# Altium integrated library Altium_WE-TPC_rev22d.IntLib: 258 symbols (part 3 of 5)
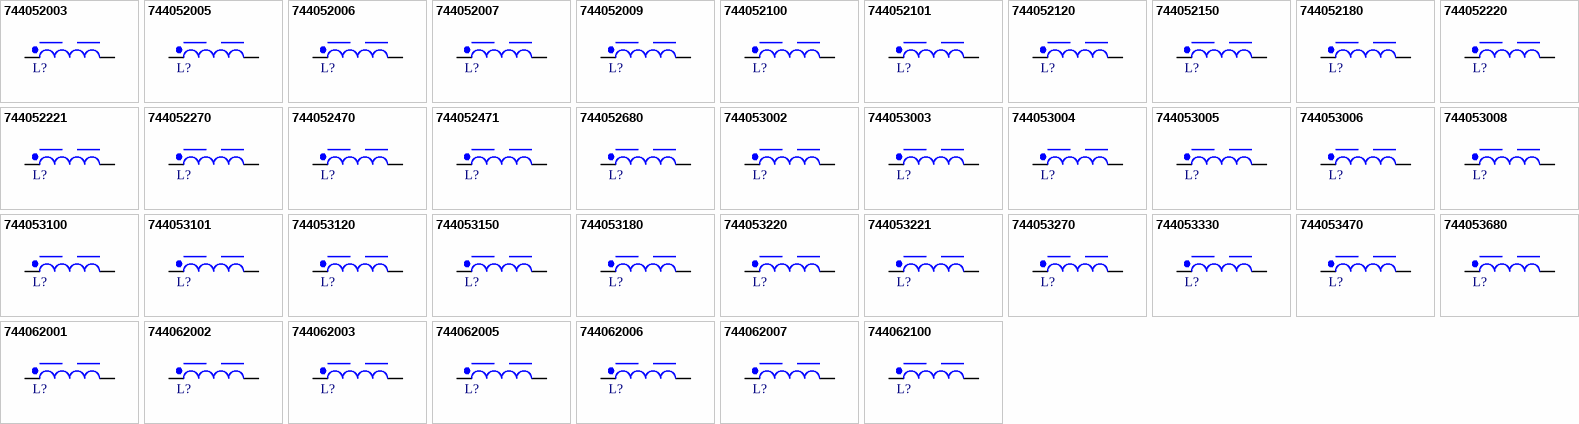
[diagram p8: symbols 744052003 to 744062100]

## 744062005
designator L?, comment 5uH, 2.15A  (value not drawn)
WE-TPC SMT Tiny Power Inductor, size 6823, 5uH, 2.15A, 40mOhm; Manufacturer Part Number: 744062005; Manufacturer: Wurth Elektronik; Case/Size Code: 6823; Saturation Current: 2A; Self Resonant Frequency: 50MHz; Category: Power Inductors; Match Code: WE-TPC; ComponentLink1Description: Website Link; ComponentLink1URL: https://www.we-online.com/redexpert/article/744062005?ad; ComponentLink2Description: Datasheet Link; ComponentLink2URL: https://www.we-online.com/redexpert/spec/744062005?ad; Mount: Surface Mount; Operating Temperature Max: 125°C; Operating Temperature Min: -40°C; Packaging: Tape and Reel; Length: 6.8mm; Width: 6.8mm; Height: 2.3mm; DC Resistance: 40mOhm; Inductance: 5uH; Rated Current: 2.15A
footprint WE-TPC_6823
simulation model 6823_744062005_5u
pins: 1, 2

## 744062006
designator L?, comment 6.2uH, 1.9A  (value not drawn)
WE-TPC SMT Tiny Power Inductor, size 6823, 6.2uH, 1.9A, 40mOhm; Manufacturer Part Number: 744062006; Manufacturer: Wurth Elektronik; Case/Size Code: 6823; Saturation Current: 1.8A; Self Resonant Frequency: 45MHz; Category: Power Inductors; Match Code: WE-TPC; ComponentLink1Description: Website Link; ComponentLink1URL: https://www.we-online.com/redexpert/article/744062006?ad; ComponentLink2Description: Datasheet Link; ComponentLink2URL: https://www.we-online.com/redexpert/spec/744062006?ad; Mount: Surface Mount; Operating Temperature Max: 125°C; Operating Temperature Min: -40°C; Packaging: Tape and Reel; Length: 6.8mm; Width: 6.8mm; Height: 2.3mm; DC Resistance: 40mOhm; Inductance: 6.2uH; Rated Current: 1.9A
footprint WE-TPC_6823
simulation model 6823_744062006_6.2u
pins: 1, 2

## 744062007
designator L?, comment 7.5uH, 1.7A  (value not drawn)
WE-TPC SMT Tiny Power Inductor, size 6823, 7.5uH, 1.7A, 50mOhm; Manufacturer Part Number: 744062007; Manufacturer: Wurth Elektronik; Case/Size Code: 6823; Saturation Current: 1.6A; Self Resonant Frequency: 40MHz; Category: Power Inductors; Match Code: WE-TPC; ComponentLink1Description: Website Link; ComponentLink1URL: https://www.we-online.com/redexpert/article/744062007?ad; ComponentLink2Description: Datasheet Link; ComponentLink2URL: https://www.we-online.com/redexpert/spec/744062007?ad; Mount: Surface Mount; Operating Temperature Max: 125°C; Operating Temperature Min: -40°C; Packaging: Tape and Reel; Length: 6.8mm; Width: 6.8mm; Height: 2.3mm; DC Resistance: 50mOhm; Inductance: 7.5uH; Rated Current: 1.7A
footprint WE-TPC_6823
simulation model 6823_744062007_7.5u
pins: 1, 2

## 744062100
designator L?, comment 10uH, 1.6A  (value not drawn)
WE-TPC SMT Tiny Power Inductor, size 6823, 10uH, 1.6A, 53mOhm; Manufacturer Part Number: 744062100; Manufacturer: Wurth Elektronik; Case/Size Code: 6823; Saturation Current: 1.4A; Self Resonant Frequency: 35MHz; Category: Power Inductors; Match Code: WE-TPC; ComponentLink1Description: Website Link; ComponentLink1URL: https://www.we-online.com/redexpert/article/744062100?ad; ComponentLink2Description: Datasheet Link; ComponentLink2URL: https://www.we-online.com/redexpert/spec/744062100?ad; Mount: Surface Mount; Operating Temperature Max: 125°C; Operating Temperature Min: -40°C; Packaging: Tape and Reel; Length: 6.8mm; Width: 6.8mm; Height: 2.3mm; DC Resistance: 53mOhm; Inductance: 10uH; Rated Current: 1.6A
footprint WE-TPC_6823
simulation model 6823_744062100_10u
pins: 1, 2

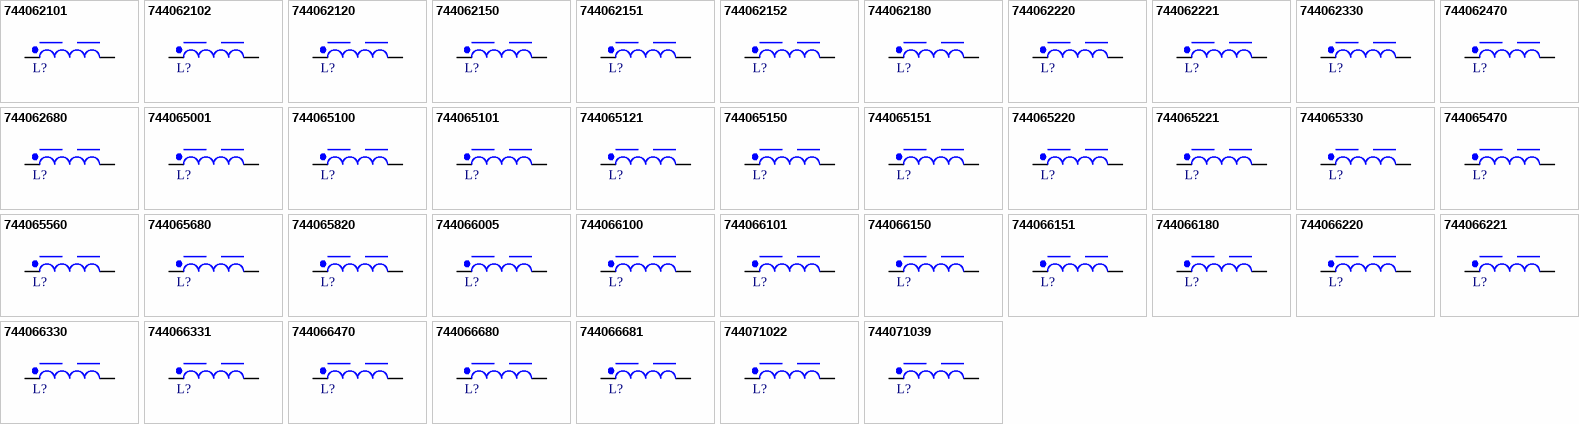
[diagram p3: symbols 744062101 to 744071039]

## 744062101
designator L?, comment 100uH, 0.55A  (value not drawn)
WE-TPC SMT Tiny Power Inductor, size 6823, 100uH, 0.55A, 440mOhm; Manufacturer Part Number: 744062101; Manufacturer: Wurth Elektronik; Case/Size Code: 6823; Saturation Current: 0.47A; Self Resonant Frequency: 10MHz; Category: Power Inductors; Match Code: WE-TPC; ComponentLink1Description: Website Link; ComponentLink1URL: https://www.we-online.com/redexpert/article/744062101?ad; ComponentLink2Description: Datasheet Link; ComponentLink2URL: https://www.we-online.com/redexpert/spec/744062101?ad; Mount: Surface Mount; Operating Temperature Max: 125°C; Operating Temperature Min: -40°C; Packaging: Tape and Reel; Length: 6.8mm; Width: 6.8mm; Height: 2.3mm; DC Resistance: 440mOhm; Inductance: 100uH; Rated Current: 0.55A
footprint WE-TPC_6823
simulation model 6823_744062101_100u
pins: 1, 2

## 744062102
designator L?, comment 1000uH, 0.16A  (value not drawn)
WE-TPC SMT Tiny Power Inductor, size 6823, 1000uH, 0.16A, 3820mOhm; Manufacturer Part Number: 744062102; Manufacturer: Wurth Elektronik; Case/Size Code: 6823; Saturation Current: 0.13A; Self Resonant Frequency: 2MHz; Category: Power Inductors; Match Code: WE-TPC; ComponentLink1Description: Website Link; ComponentLink1URL: https://www.we-online.com/redexpert/article/744062102?ad; ComponentLink2Description: Datasheet Link; ComponentLink2URL: https://www.we-online.com/redexpert/spec/744062102?ad; Mount: Surface Mount; Operating Temperature Max: 125°C; Operating Temperature Min: -40°C; Packaging: Tape and Reel; Length: 6.8mm; Width: 6.8mm; Height: 2.3mm; DC Resistance: 3820mOhm; Inductance: 1000uH; Rated Current: 0.16A
footprint WE-TPC_6823
simulation model 6823_744062102_1000u
pins: 1, 2

## 744062120
designator L?, comment 12uH, 1.43A  (value not drawn)
WE-TPC SMT Tiny Power Inductor, size 6823, 12uH, 1.43A, 60mOhm; Manufacturer Part Number: 744062120; Manufacturer: Wurth Elektronik; Case/Size Code: 6823; Saturation Current: 1.25A; Self Resonant Frequency: 30MHz; Category: Power Inductors; Match Code: WE-TPC; ComponentLink1Description: Website Link; ComponentLink1URL: https://www.we-online.com/redexpert/article/744062120?ad; ComponentLink2Description: Datasheet Link; ComponentLink2URL: https://www.we-online.com/redexpert/spec/744062120?ad; Mount: Surface Mount; Operating Temperature Max: 125°C; Operating Temperature Min: -40°C; Packaging: Tape and Reel; Length: 6.8mm; Width: 6.8mm; Height: 2.3mm; DC Resistance: 60mOhm; Inductance: 12uH; Rated Current: 1.43A
footprint WE-TPC_6823
simulation model 6823_744062120_12u
pins: 1, 2

## 744062150
designator L?, comment 15uH, 1.31A  (value not drawn)
WE-TPC SMT Tiny Power Inductor, size 6823, 15uH, 1.31A, 80mOhm; Manufacturer Part Number: 744062150; Manufacturer: Wurth Elektronik; Case/Size Code: 6823; Saturation Current: 1.1A; Self Resonant Frequency: 25MHz; Category: Power Inductors; Match Code: WE-TPC; ComponentLink1Description: Website Link; ComponentLink1URL: https://www.we-online.com/redexpert/article/744062150?ad; ComponentLink2Description: Datasheet Link; ComponentLink2URL: https://www.we-online.com/redexpert/spec/744062150?ad; Mount: Surface Mount; Operating Temperature Max: 125°C; Operating Temperature Min: -40°C; Packaging: Tape and Reel; Length: 6.8mm; Width: 6.8mm; Height: 2.3mm; DC Resistance: 80mOhm; Inductance: 15uH; Rated Current: 1.31A
footprint WE-TPC_6823
simulation model 6823_744062150_15u
pins: 1, 2

## 744062151
designator L?, comment 150uH, 0.43A  (value not drawn)
WE-TPC SMT Tiny Power Inductor, size 6823, 150uH, 0.43A, 605mOhm; Manufacturer Part Number: 744062151; Manufacturer: Wurth Elektronik; Case/Size Code: 6823; Saturation Current: 0.36A; Self Resonant Frequency: 9MHz; Category: Power Inductors; Match Code: WE-TPC; ComponentLink1Description: Website Link; ComponentLink1URL: https://www.we-online.com/redexpert/article/744062151?ad; ComponentLink2Description: Datasheet Link; ComponentLink2URL: https://www.we-online.com/redexpert/spec/744062151?ad; Mount: Surface Mount; Operating Temperature Max: 125°C; Operating Temperature Min: -40°C; Packaging: Tape and Reel; Length: 6.8mm; Width: 6.8mm; Height: 2.3mm; DC Resistance: 605mOhm; Inductance: 150uH; Rated Current: 0.43A
footprint WE-TPC_6823
simulation model 6823_744062151_150u
pins: 1, 2

## 744062152
designator L?, comment 1500uH, 0.08A  (value not drawn)
WE-TPC SMT Tiny Power Inductor, size 6823, 1500uH, 0.08A, 7000mOhm; Manufacturer Part Number: 744062152; Manufacturer: Wurth Elektronik; Case/Size Code: 6823; Saturation Current: 0.11A; Self Resonant Frequency: 1.5MHz; Category: Power Inductors; Match Code: WE-TPC; ComponentLink1Description: Website Link; ComponentLink1URL: https://www.we-online.com/redexpert/article/744062152?ad; ComponentLink2Description: Datasheet Link; ComponentLink2URL: https://www.we-online.com/redexpert/spec/744062152?ad; Mount: Surface Mount; Operating Temperature Max: 125°C; Operating Temperature Min: -40°C; Packaging: Tape and Reel; Length: 6.8mm; Width: 6.8mm; Height: 2.3mm; DC Resistance: 7000mOhm; Inductance: 1500uH; Rated Current: 0.08A
footprint WE-TPC_6823
simulation model 6823_744062152_1500u
pins: 1, 2

## 744062180
designator L?, comment 18uH, 1.28A  (value not drawn)
WE-TPC SMT Tiny Power Inductor, size 6823, 18uH, 1.28A, 90mOhm; Manufacturer Part Number: 744062180; Manufacturer: Wurth Elektronik; Case/Size Code: 6823; Saturation Current: 1A; Self Resonant Frequency: 25MHz; Category: Power Inductors; Match Code: WE-TPC; ComponentLink1Description: Website Link; ComponentLink1URL: https://www.we-online.com/redexpert/article/744062180?ad; ComponentLink2Description: Datasheet Link; ComponentLink2URL: https://www.we-online.com/redexpert/spec/744062180?ad; Mount: Surface Mount; Operating Temperature Max: 125°C; Operating Temperature Min: -40°C; Packaging: Tape and Reel; Length: 6.8mm; Width: 6.8mm; Height: 2.3mm; DC Resistance: 90mOhm; Inductance: 18uH; Rated Current: 1.28A
footprint WE-TPC_6823
simulation model 6823_744062180_18u
pins: 1, 2

## 744062220
designator L?, comment 22uH, 1.22A  (value not drawn)
WE-TPC SMT Tiny Power Inductor, size 6823, 22uH, 1.22A, 100mOhm; Manufacturer Part Number: 744062220; Manufacturer: Wurth Elektronik; Case/Size Code: 6823; Saturation Current: 0.95A; Self Resonant Frequency: 20MHz; Category: Power Inductors; Match Code: WE-TPC; ComponentLink1Description: Website Link; ComponentLink1URL: https://www.we-online.com/redexpert/article/744062220?ad; ComponentLink2Description: Datasheet Link; ComponentLink2URL: https://www.we-online.com/redexpert/spec/744062220?ad; Mount: Surface Mount; Operating Temperature Max: 125°C; Operating Temperature Min: -40°C; Packaging: Tape and Reel; Length: 6.8mm; Width: 6.8mm; Height: 2.3mm; DC Resistance: 100mOhm; Inductance: 22uH; Rated Current: 1.22A
footprint WE-TPC_6823
simulation model 6823_744062220_22u
pins: 1, 2

## 744062221
designator L?, comment 220uH, 0.36A  (value not drawn)
WE-TPC SMT Tiny Power Inductor, size 6823, 220uH, 0.36A, 1010mOhm; Manufacturer Part Number: 744062221; Manufacturer: Wurth Elektronik; Case/Size Code: 6823; Saturation Current: 0.25A; Self Resonant Frequency: 7MHz; Category: Power Inductors; Match Code: WE-TPC; ComponentLink1Description: Website Link; ComponentLink1URL: https://www.we-online.com/redexpert/article/744062221?ad; ComponentLink2Description: Datasheet Link; ComponentLink2URL: https://www.we-online.com/redexpert/spec/744062221?ad; Mount: Surface Mount; Operating Temperature Max: 125°C; Operating Temperature Min: -40°C; Packaging: Tape and Reel; Length: 6.8mm; Width: 6.8mm; Height: 2.3mm; DC Resistance: 1010mOhm; Inductance: 220uH; Rated Current: 0.36A
footprint WE-TPC_6823
simulation model 6823_744062221_220u
pins: 1, 2

## 744062330
designator L?, comment 33uH, 0.93A  (value not drawn)
WE-TPC SMT Tiny Power Inductor, size 6823, 33uH, 0.93A, 150mOhm; Manufacturer Part Number: 744062330; Manufacturer: Wurth Elektronik; Case/Size Code: 6823; Saturation Current: 0.78A; Self Resonant Frequency: 20MHz; Category: Power Inductors; Match Code: WE-TPC; ComponentLink1Description: Website Link; ComponentLink1URL: https://www.we-online.com/redexpert/article/744062330?ad; ComponentLink2Description: Datasheet Link; ComponentLink2URL: https://www.we-online.com/redexpert/spec/744062330?ad; Mount: Surface Mount; Operating Temperature Max: 125°C; Operating Temperature Min: -40°C; Packaging: Tape and Reel; Length: 6.8mm; Width: 6.8mm; Height: 2.3mm; DC Resistance: 150mOhm; Inductance: 33uH; Rated Current: 0.93A
footprint WE-TPC_6823
simulation model 6823_744062330_33u
pins: 1, 2

## 744062470
designator L?, comment 47uH, 0.73A  (value not drawn)
WE-TPC SMT Tiny Power Inductor, size 6823, 47uH, 0.73A, 260mOhm; Manufacturer Part Number: 744062470; Manufacturer: Wurth Elektronik; Case/Size Code: 6823; Saturation Current: 0.62A; Self Resonant Frequency: 12MHz; Category: Power Inductors; Match Code: WE-TPC; ComponentLink1Description: Website Link; ComponentLink1URL: https://www.we-online.com/redexpert/article/744062470?ad; ComponentLink2Description: Datasheet Link; ComponentLink2URL: https://www.we-online.com/redexpert/spec/744062470?ad; Mount: Surface Mount; Operating Temperature Max: 125°C; Operating Temperature Min: -40°C; Packaging: Tape and Reel; Length: 6.8mm; Width: 6.8mm; Height: 2.3mm; DC Resistance: 260mOhm; Inductance: 47uH; Rated Current: 0.73A
footprint WE-TPC_6823
simulation model 6823_744062470_47u
pins: 1, 2

## 744062680
designator L?, comment 68uH, 0.64A  (value not drawn)
WE-TPC SMT Tiny Power Inductor, size 6823, 68uH, 0.64A, 300mOhm; Manufacturer Part Number: 744062680; Manufacturer: Wurth Elektronik; Case/Size Code: 6823; Saturation Current: 0.5A; Self Resonant Frequency: 12MHz; Category: Power Inductors; Match Code: WE-TPC; ComponentLink1Description: Website Link; ComponentLink1URL: https://www.we-online.com/redexpert/article/744062680?ad; ComponentLink2Description: Datasheet Link; ComponentLink2URL: https://www.we-online.com/redexpert/spec/744062680?ad; Mount: Surface Mount; Operating Temperature Max: 125°C; Operating Temperature Min: -40°C; Packaging: Tape and Reel; Length: 6.8mm; Width: 6.8mm; Height: 2.3mm; DC Resistance: 300mOhm; Inductance: 68uH; Rated Current: 0.64A
footprint WE-TPC_6823
simulation model 6823_744062680_68u
pins: 1, 2

## 744065001
designator L?, comment 1uH, 8A  (value not drawn)
WE-TPC SMT Tiny Power Inductor, size 1028, 1uH, 8A, 4.9mOhm; Manufacturer Part Number: 744065001; Manufacturer: Wurth Elektronik; Case/Size Code: 1028; Saturation Current: 9.5A; Self Resonant Frequency: 100MHz; Category: Power Inductors; Match Code: WE-TPC; ComponentLink1Description: Website Link; ComponentLink1URL: https://www.we-online.com/redexpert/article/744065001?ad; ComponentLink2Description: Datasheet Link; ComponentLink2URL: https://www.we-online.com/redexpert/spec/744065001?ad; Mount: Surface Mount; Operating Temperature Max: 125°C; Operating Temperature Min: -40°C; Packaging: Tape and Reel; Length: 10mm; Width: 10mm; Height: 2.78mm; DC Resistance: 4.9mOhm; Inductance: 1uH; Rated Current: 8A
footprint WE-TPC_1028
simulation model 1028_744065001_1u
pins: 1, 2

## 744065100
designator L?, comment 10uH, 3A  (value not drawn)
WE-TPC SMT Tiny Power Inductor, size 1028, 10uH, 3A, 40mOhm; Manufacturer Part Number: 744065100; Manufacturer: Wurth Elektronik; Case/Size Code: 1028; Saturation Current: 2.5A; Self Resonant Frequency: 25MHz; Category: Power Inductors; Match Code: WE-TPC; ComponentLink1Description: Website Link; ComponentLink1URL: https://www.we-online.com/redexpert/article/744065100?ad; ComponentLink2Description: Datasheet Link; ComponentLink2URL: https://www.we-online.com/redexpert/spec/744065100?ad; Mount: Surface Mount; Operating Temperature Max: 125°C; Operating Temperature Min: -40°C; Packaging: Tape and Reel; Length: 10mm; Width: 10mm; Height: 2.78mm; DC Resistance: 40mOhm; Inductance: 10uH; Rated Current: 3A
footprint WE-TPC_1028
simulation model 1028_744065100_10u
pins: 1, 2

## 744065101
designator L?, comment 100uH, 1A  (value not drawn)
WE-TPC SMT Tiny Power Inductor, size 1028, 100uH, 1A, 365mOhm; Manufacturer Part Number: 744065101; Manufacturer: Wurth Elektronik; Case/Size Code: 1028; Saturation Current: 0.9A; Self Resonant Frequency: 7MHz; Category: Power Inductors; Match Code: WE-TPC; ComponentLink1Description: Website Link; ComponentLink1URL: https://www.we-online.com/redexpert/article/744065101?ad; ComponentLink2Description: Datasheet Link; ComponentLink2URL: https://www.we-online.com/redexpert/spec/744065101?ad; Mount: Surface Mount; Operating Temperature Max: 125°C; Operating Temperature Min: -40°C; Packaging: Tape and Reel; Length: 10mm; Width: 10mm; Height: 2.78mm; DC Resistance: 365mOhm; Inductance: 100uH; Rated Current: 1A
footprint WE-TPC_1028
simulation model 1028_744065101_100u
pins: 1, 2

## 744065121
designator L?, comment 120uH, 0.9A  (value not drawn)
WE-TPC SMT Tiny Power Inductor, size 1028, 120uH, 0.9A, 428mOhm; Manufacturer Part Number: 744065121; Manufacturer: Wurth Elektronik; Case/Size Code: 1028; Saturation Current: 0.85A; Self Resonant Frequency: 6MHz; Category: Power Inductors; Match Code: WE-TPC; ComponentLink1Description: Website Link; ComponentLink1URL: https://www.we-online.com/redexpert/article/744065121?ad; ComponentLink2Description: Datasheet Link; ComponentLink2URL: https://www.we-online.com/redexpert/spec/744065121?ad; Mount: Surface Mount; Operating Temperature Max: 125°C; Operating Temperature Min: -40°C; Packaging: Tape and Reel; Length: 10mm; Width: 10mm; Height: 2.78mm; DC Resistance: 428mOhm; Inductance: 120uH; Rated Current: 0.9A
footprint WE-TPC_1028
simulation model 1028_744065121_120u
pins: 1, 2

## 744065150
designator L?, comment 15uH, 2.2A  (value not drawn)
WE-TPC SMT Tiny Power Inductor, size 1028, 15uH, 2.2A, 69mOhm; Manufacturer Part Number: 744065150; Manufacturer: Wurth Elektronik; Case/Size Code: 1028; Saturation Current: 2.25A; Self Resonant Frequency: 22MHz; Category: Power Inductors; Match Code: WE-TPC; ComponentLink1Description: Website Link; ComponentLink1URL: https://www.we-online.com/redexpert/article/744065150?ad; ComponentLink2Description: Datasheet Link; ComponentLink2URL: https://www.we-online.com/redexpert/spec/744065150?ad; Mount: Surface Mount; Operating Temperature Max: 125°C; Operating Temperature Min: -40°C; Packaging: Tape and Reel; Length: 10mm; Width: 10mm; Height: 2.78mm; DC Resistance: 69mOhm; Inductance: 15uH; Rated Current: 2.2A
footprint WE-TPC_1028
simulation model 1028_744065150_15u
pins: 1, 2

## 744065151
designator L?, comment 150uH, 0.85A  (value not drawn)
WE-TPC SMT Tiny Power Inductor, size 1028, 150uH, 0.85A, 530mOhm; Manufacturer Part Number: 744065151; Manufacturer: Wurth Elektronik; Case/Size Code: 1028; Saturation Current: 0.75A; Self Resonant Frequency: 5MHz; Category: Power Inductors; Match Code: WE-TPC; ComponentLink1Description: Website Link; ComponentLink1URL: https://www.we-online.com/redexpert/article/744065151?ad; ComponentLink2Description: Datasheet Link; ComponentLink2URL: https://www.we-online.com/redexpert/spec/744065151?ad; Mount: Surface Mount; Operating Temperature Max: 125°C; Operating Temperature Min: -40°C; Packaging: Tape and Reel; Length: 10mm; Width: 10mm; Height: 2.78mm; DC Resistance: 530mOhm; Inductance: 150uH; Rated Current: 0.85A
footprint WE-TPC_1028
simulation model 1028_744065151_150u
pins: 1, 2

## 744065220
designator L?, comment 22uH, 1.8A  (value not drawn)
WE-TPC SMT Tiny Power Inductor, size 1028, 22uH, 1.8A, 104mOhm; Manufacturer Part Number: 744065220; Manufacturer: Wurth Elektronik; Case/Size Code: 1028; Saturation Current: 1.9A; Self Resonant Frequency: 16MHz; Category: Power Inductors; Match Code: WE-TPC; ComponentLink1Description: Website Link; ComponentLink1URL: https://www.we-online.com/redexpert/article/744065220?ad; ComponentLink2Description: Datasheet Link; ComponentLink2URL: https://www.we-online.com/redexpert/spec/744065220?ad; Mount: Surface Mount; Operating Temperature Max: 125°C; Operating Temperature Min: -40°C; Packaging: Tape and Reel; Length: 10mm; Width: 10mm; Height: 2.78mm; DC Resistance: 104mOhm; Inductance: 22uH; Rated Current: 1.8A
footprint WE-TPC_1028
simulation model 1028_744065220_22u
pins: 1, 2

## 744065221
designator L?, comment 220uH, 0.5A  (value not drawn)
WE-TPC SMT Tiny Power Inductor, size 1028, 220uH, 0.5A, 750mOhm; Manufacturer Part Number: 744065221; Manufacturer: Wurth Elektronik; Case/Size Code: 1028; Saturation Current: 0.55A; Self Resonant Frequency: 4MHz; Category: Power Inductors; Match Code: WE-TPC; ComponentLink1Description: Website Link; ComponentLink1URL: https://www.we-online.com/redexpert/article/744065221?ad; ComponentLink2Description: Datasheet Link; ComponentLink2URL: https://www.we-online.com/redexpert/spec/744065221?ad; Mount: Surface Mount; Operating Temperature Max: 125°C; Operating Temperature Min: -40°C; Packaging: Tape and Reel; Length: 10mm; Width: 10mm; Height: 2.78mm; DC Resistance: 750mOhm; Inductance: 220uH; Rated Current: 0.5A
footprint WE-TPC_1028
simulation model 1028_744065221_220u
pins: 1, 2

## 744065330
designator L?, comment 33uH, 1.6A  (value not drawn)
WE-TPC SMT Tiny Power Inductor, size 1028, 33uH, 1.6A, 139mOhm; Manufacturer Part Number: 744065330; Manufacturer: Wurth Elektronik; Case/Size Code: 1028; Saturation Current: 1.3A; Self Resonant Frequency: 12MHz; Category: Power Inductors; Match Code: WE-TPC; ComponentLink1Description: Website Link; ComponentLink1URL: https://www.we-online.com/redexpert/article/744065330?ad; ComponentLink2Description: Datasheet Link; ComponentLink2URL: https://www.we-online.com/redexpert/spec/744065330?ad; Mount: Surface Mount; Operating Temperature Max: 125°C; Operating Temperature Min: -40°C; Packaging: Tape and Reel; Length: 10mm; Width: 10mm; Height: 2.78mm; DC Resistance: 139mOhm; Inductance: 33uH; Rated Current: 1.6A
footprint WE-TPC_1028
simulation model 1028_744065330_33u
pins: 1, 2

## 744065470
designator L?, comment 47uH, 1.4A  (value not drawn)
WE-TPC SMT Tiny Power Inductor, size 1028, 47uH, 1.4A, 167mOhm; Manufacturer Part Number: 744065470; Manufacturer: Wurth Elektronik; Case/Size Code: 1028; Saturation Current: 1.15A; Self Resonant Frequency: 11MHz; Category: Power Inductors; Match Code: WE-TPC; ComponentLink1Description: Website Link; ComponentLink1URL: https://www.we-online.com/redexpert/article/744065470?ad; ComponentLink2Description: Datasheet Link; ComponentLink2URL: https://www.we-online.com/redexpert/spec/744065470?ad; Mount: Surface Mount; Operating Temperature Max: 125°C; Operating Temperature Min: -40°C; Packaging: Tape and Reel; Length: 10mm; Width: 10mm; Height: 2.78mm; DC Resistance: 167mOhm; Inductance: 47uH; Rated Current: 1.4A
footprint WE-TPC_1028
simulation model 1028_744065470_47u
pins: 1, 2

## 744065560
designator L?, comment 56uH, 1.25A  (value not drawn)
WE-TPC SMT Tiny Power Inductor, size 1028, 56uH, 1.25A, 208mOhm; Manufacturer Part Number: 744065560; Manufacturer: Wurth Elektronik; Case/Size Code: 1028; Saturation Current: 1.1A; Self Resonant Frequency: 10MHz; Category: Power Inductors; Match Code: WE-TPC; ComponentLink1Description: Website Link; ComponentLink1URL: https://www.we-online.com/redexpert/article/744065560?ad; ComponentLink2Description: Datasheet Link; ComponentLink2URL: https://www.we-online.com/redexpert/spec/744065560?ad; Mount: Surface Mount; Operating Temperature Max: 125°C; Operating Temperature Min: -40°C; Packaging: Tape and Reel; Length: 10mm; Width: 10mm; Height: 2.78mm; DC Resistance: 208mOhm; Inductance: 56uH; Rated Current: 1.25A
footprint WE-TPC_1028
simulation model 1028_744065560_56u
pins: 1, 2

## 744065680
designator L?, comment 68uH, 1.2A  (value not drawn)
WE-TPC SMT Tiny Power Inductor, size 1028, 68uH, 1.2A, 232mOhm; Manufacturer Part Number: 744065680; Manufacturer: Wurth Elektronik; Case/Size Code: 1028; Saturation Current: 1.05A; Self Resonant Frequency: 9MHz; Category: Power Inductors; Match Code: WE-TPC; ComponentLink1Description: Website Link; ComponentLink1URL: https://www.we-online.com/redexpert/article/744065680?ad; ComponentLink2Description: Datasheet Link; ComponentLink2URL: https://www.we-online.com/redexpert/spec/744065680?ad; Mount: Surface Mount; Operating Temperature Max: 125°C; Operating Temperature Min: -40°C; Packaging: Tape and Reel; Length: 10mm; Width: 10mm; Height: 2.78mm; DC Resistance: 232mOhm; Inductance: 68uH; Rated Current: 1.2A
footprint WE-TPC_1028
simulation model 1028_744065680_68u
pins: 1, 2

## 744065820
designator L?, comment 82uH, 1.1A  (value not drawn)
WE-TPC SMT Tiny Power Inductor, size 1028, 82uH, 1.1A, 323mOhm; Manufacturer Part Number: 744065820; Manufacturer: Wurth Elektronik; Case/Size Code: 1028; Saturation Current: 1A; Self Resonant Frequency: 8MHz; Category: Power Inductors; Match Code: WE-TPC; ComponentLink1Description: Website Link; ComponentLink1URL: https://www.we-online.com/redexpert/article/744065820?ad; ComponentLink2Description: Datasheet Link; ComponentLink2URL: https://www.we-online.com/redexpert/spec/744065820?ad; Mount: Surface Mount; Operating Temperature Max: 125°C; Operating Temperature Min: -40°C; Packaging: Tape and Reel; Length: 10mm; Width: 10mm; Height: 2.78mm; DC Resistance: 323mOhm; Inductance: 82uH; Rated Current: 1.1A
footprint WE-TPC_1028
simulation model 1028_744065820_82u
pins: 1, 2

## 744066005
designator L?, comment 5uH, 5.3A  (value not drawn)
WE-TPC SMT Tiny Power Inductor, size 1038, 5uH, 5.3A, 16.8mOhm; Manufacturer Part Number: 744066005; Manufacturer: Wurth Elektronik; Case/Size Code: 1038; Saturation Current: 5.5A; Self Resonant Frequency: 30MHz; Category: Power Inductors; Match Code: WE-TPC; ComponentLink1Description: Website Link; ComponentLink1URL: https://www.we-online.com/redexpert/article/744066005?ad; ComponentLink2Description: Datasheet Link; ComponentLink2URL: https://www.we-online.com/redexpert/spec/744066005?ad; Mount: Surface Mount; Operating Temperature Max: 125°C; Operating Temperature Min: -40°C; Packaging: Tape and Reel; Length: 10mm; Width: 10mm; Height: 3.8mm; DC Resistance: 16.8mOhm; Inductance: 5uH; Rated Current: 5.3A
footprint WE-TPC_1038
simulation model 1038_744066005_5u
pins: 1, 2

## 744066100
designator L?, comment 10uH, 3.9A  (value not drawn)
WE-TPC SMT Tiny Power Inductor, size 1038, 10uH, 3.9A, 27mOhm; Manufacturer Part Number: 744066100; Manufacturer: Wurth Elektronik; Case/Size Code: 1038; Saturation Current: 4A; Self Resonant Frequency: 20MHz; Category: Power Inductors; Match Code: WE-TPC; ComponentLink1Description: Website Link; ComponentLink1URL: https://www.we-online.com/redexpert/article/744066100?ad; ComponentLink2Description: Datasheet Link; ComponentLink2URL: https://www.we-online.com/redexpert/spec/744066100?ad; Mount: Surface Mount; Operating Temperature Max: 125°C; Operating Temperature Min: -40°C; Packaging: Tape and Reel; Length: 10mm; Width: 10mm; Height: 3.8mm; DC Resistance: 27mOhm; Inductance: 10uH; Rated Current: 3.9A
footprint WE-TPC_1038
simulation model 1038_744066100_10u
pins: 1, 2

## 744066101
designator L?, comment 100uH, 1.15A  (value not drawn)
WE-TPC SMT Tiny Power Inductor, size 1038, 100uH, 1.15A, 265mOhm; Manufacturer Part Number: 744066101; Manufacturer: Wurth Elektronik; Case/Size Code: 1038; Saturation Current: 1.2A; Self Resonant Frequency: 6MHz; Category: Power Inductors; Match Code: WE-TPC; ComponentLink1Description: Website Link; ComponentLink1URL: https://www.we-online.com/redexpert/article/744066101?ad; ComponentLink2Description: Datasheet Link; ComponentLink2URL: https://www.we-online.com/redexpert/spec/744066101?ad; Mount: Surface Mount; Operating Temperature Max: 125°C; Operating Temperature Min: -40°C; Packaging: Tape and Reel; Length: 10mm; Width: 10mm; Height: 3.8mm; DC Resistance: 265mOhm; Inductance: 100uH; Rated Current: 1.15A
footprint WE-TPC_1038
simulation model 1038_744066101_100u
pins: 1, 2

## 744066150
designator L?, comment 15uH, 3A  (value not drawn)
WE-TPC SMT Tiny Power Inductor, size 1038, 15uH, 3A, 45mOhm; Manufacturer Part Number: 744066150; Manufacturer: Wurth Elektronik; Case/Size Code: 1038; Saturation Current: 3.25A; Self Resonant Frequency: 16MHz; Category: Power Inductors; Match Code: WE-TPC; ComponentLink1Description: Website Link; ComponentLink1URL: https://www.we-online.com/redexpert/article/744066150?ad; ComponentLink2Description: Datasheet Link; ComponentLink2URL: https://www.we-online.com/redexpert/spec/744066150?ad; Mount: Surface Mount; Operating Temperature Max: 125°C; Operating Temperature Min: -40°C; Packaging: Tape and Reel; Length: 10mm; Width: 10mm; Height: 3.8mm; DC Resistance: 45mOhm; Inductance: 15uH; Rated Current: 3A
footprint WE-TPC_1038
simulation model 1038_744066150_15u
pins: 1, 2

## 744066151
designator L?, comment 150uH, 0.95A  (value not drawn)
WE-TPC SMT Tiny Power Inductor, size 1038, 150uH, 0.95A, 400mOhm; Manufacturer Part Number: 744066151; Manufacturer: Wurth Elektronik; Case/Size Code: 1038; Saturation Current: 1.1A; Self Resonant Frequency: 6MHz; Category: Power Inductors; Match Code: WE-TPC; ComponentLink1Description: Website Link; ComponentLink1URL: https://www.we-online.com/redexpert/article/744066151?ad; ComponentLink2Description: Datasheet Link; ComponentLink2URL: https://www.we-online.com/redexpert/spec/744066151?ad; Mount: Surface Mount; Operating Temperature Max: 125°C; Operating Temperature Min: -40°C; Packaging: Tape and Reel; Length: 10mm; Width: 10mm; Height: 3.8mm; DC Resistance: 400mOhm; Inductance: 150uH; Rated Current: 0.95A
footprint WE-TPC_1038
simulation model 1038_744066151_150u
pins: 1, 2

## 744066180
designator L?, comment 18uH, 2.95A  (value not drawn)
WE-TPC SMT Tiny Power Inductor, size 1038, 18uH, 2.95A, 48mOhm; Manufacturer Part Number: 744066180; Manufacturer: Wurth Elektronik; Case/Size Code: 1038; Saturation Current: 3A; Self Resonant Frequency: 14MHz; Category: Power Inductors; Match Code: WE-TPC; ComponentLink1Description: Website Link; ComponentLink1URL: https://www.we-online.com/redexpert/article/744066180?ad; ComponentLink2Description: Datasheet Link; ComponentLink2URL: https://www.we-online.com/redexpert/spec/744066180?ad; Mount: Surface Mount; Operating Temperature Max: 125°C; Operating Temperature Min: -40°C; Packaging: Tape and Reel; Length: 10mm; Width: 10mm; Height: 3.8mm; DC Resistance: 48mOhm; Inductance: 18uH; Rated Current: 2.95A
footprint WE-TPC_1038
simulation model 1038_744066180_18u
pins: 1, 2

## 744066220
designator L?, comment 22uH, 2.6A  (value not drawn)
WE-TPC SMT Tiny Power Inductor, size 1038, 22uH, 2.6A, 63mOhm; Manufacturer Part Number: 744066220; Manufacturer: Wurth Elektronik; Case/Size Code: 1038; Saturation Current: 2.3A; Self Resonant Frequency: 12MHz; Category: Power Inductors; Match Code: WE-TPC; ComponentLink1Description: Website Link; ComponentLink1URL: https://www.we-online.com/redexpert/article/744066220?ad; ComponentLink2Description: Datasheet Link; ComponentLink2URL: https://www.we-online.com/redexpert/spec/744066220?ad; Mount: Surface Mount; Operating Temperature Max: 125°C; Operating Temperature Min: -40°C; Packaging: Tape and Reel; Length: 10mm; Width: 10mm; Height: 3.8mm; DC Resistance: 63mOhm; Inductance: 22uH; Rated Current: 2.6A
footprint WE-TPC_1038
simulation model 1038_744066220_22u
pins: 1, 2

## 744066221
designator L?, comment 220uH, 0.85A  (value not drawn)
WE-TPC SMT Tiny Power Inductor, size 1038, 220uH, 0.85A, 505mOhm; Manufacturer Part Number: 744066221; Manufacturer: Wurth Elektronik; Case/Size Code: 1038; Self Resonant Frequency: 6MHz; Category: Power Inductors; Match Code: WE-TPC; ComponentLink1Description: Website Link; ComponentLink1URL: https://www.we-online.com/redexpert/article/744066221?ad; ComponentLink2Description: Datasheet Link; ComponentLink2URL: https://www.we-online.com/redexpert/spec/744066221?ad; Mount: Surface Mount; Operating Temperature Max: 125°C; Operating Temperature Min: -40°C; Packaging: Tape and Reel; Length: 10mm; Width: 10mm; Height: 3.8mm; DC Resistance: 505mOhm; Inductance: 220uH; Rated Current: 0.85A; Saturation Current: 0.85A
footprint WE-TPC_1038
simulation model 1038_744066221_220u
pins: 1, 2

## 744066330
designator L?, comment 33uH, 2A  (value not drawn)
WE-TPC SMT Tiny Power Inductor, size 1038, 33uH, 2A, 92mOhm; Manufacturer Part Number: 744066330; Manufacturer: Wurth Elektronik; Case/Size Code: 1038; Saturation Current: 1.8A; Self Resonant Frequency: 10MHz; Category: Power Inductors; Match Code: WE-TPC; ComponentLink1Description: Website Link; ComponentLink1URL: https://www.we-online.com/redexpert/article/744066330?ad; ComponentLink2Description: Datasheet Link; ComponentLink2URL: https://www.we-online.com/redexpert/spec/744066330?ad; Mount: Surface Mount; Operating Temperature Max: 125°C; Operating Temperature Min: -40°C; Packaging: Tape and Reel; Length: 10mm; Width: 10mm; Height: 3.8mm; DC Resistance: 92mOhm; Inductance: 33uH; Rated Current: 2A
footprint WE-TPC_1038
simulation model 1038_744066330_33u
pins: 1, 2

## 744066331
designator L?, comment 330uH, 0.7A  (value not drawn)
WE-TPC SMT Tiny Power Inductor, size 1038, 330uH, 0.7A, 750mOhm; Manufacturer Part Number: 744066331; Manufacturer: Wurth Elektronik; Case/Size Code: 1038; Self Resonant Frequency: 6MHz; Category: Power Inductors; Match Code: WE-TPC; ComponentLink1Description: Website Link; ComponentLink1URL: https://www.we-online.com/redexpert/article/744066331?ad; ComponentLink2Description: Datasheet Link; ComponentLink2URL: https://www.we-online.com/redexpert/spec/744066331?ad; Mount: Surface Mount; Operating Temperature Max: 125°C; Operating Temperature Min: -40°C; Packaging: Tape and Reel; Length: 10mm; Width: 10mm; Height: 3.8mm; DC Resistance: 750mOhm; Inductance: 330uH; Rated Current: 0.7A; Saturation Current: 0.7A
footprint WE-TPC_1038
simulation model 1038_744066331_330u
pins: 1, 2

## 744066470
designator L?, comment 47uH, 1.6A  (value not drawn)
WE-TPC SMT Tiny Power Inductor, size 1038, 47uH, 1.6A, 138mOhm; Manufacturer Part Number: 744066470; Manufacturer: Wurth Elektronik; Case/Size Code: 1038; Saturation Current: 1.85A; Self Resonant Frequency: 8MHz; Category: Power Inductors; Match Code: WE-TPC; ComponentLink1Description: Website Link; ComponentLink1URL: https://www.we-online.com/redexpert/article/744066470?ad; ComponentLink2Description: Datasheet Link; ComponentLink2URL: https://www.we-online.com/redexpert/spec/744066470?ad; Mount: Surface Mount; Operating Temperature Max: 125°C; Operating Temperature Min: -40°C; Packaging: Tape and Reel; Length: 10mm; Width: 10mm; Height: 3.8mm; DC Resistance: 138mOhm; Inductance: 47uH; Rated Current: 1.6A
footprint WE-TPC_1038
simulation model 1038_744066470_47u
pins: 1, 2

## 744066680
designator L?, comment 68uH, 1.55A  (value not drawn)
WE-TPC SMT Tiny Power Inductor, size 1038, 68uH, 1.55A, 155mOhm; Manufacturer Part Number: 744066680; Manufacturer: Wurth Elektronik; Case/Size Code: 1038; Saturation Current: 1.5A; Self Resonant Frequency: 7MHz; Category: Power Inductors; Match Code: WE-TPC; ComponentLink1Description: Website Link; ComponentLink1URL: https://www.we-online.com/redexpert/article/744066680?ad; ComponentLink2Description: Datasheet Link; ComponentLink2URL: https://www.we-online.com/redexpert/spec/744066680?ad; Mount: Surface Mount; Operating Temperature Max: 125°C; Operating Temperature Min: -40°C; Packaging: Tape and Reel; Length: 10mm; Width: 10mm; Height: 3.8mm; DC Resistance: 155mOhm; Inductance: 68uH; Rated Current: 1.55A
footprint WE-TPC_1038
simulation model 1038_744066680_68u
pins: 1, 2

## 744066681
designator L?, comment 680uH, 0.46A  (value not drawn)
WE-TPC SMT Tiny Power Inductor, size 1038, 680uH, 0.46A, 1750mOhm; Manufacturer Part Number: 744066681; Manufacturer: Wurth Elektronik; Case/Size Code: 1038; Saturation Current: 0.5A; Self Resonant Frequency: 2MHz; Category: Power Inductors; Match Code: WE-TPC; ComponentLink1Description: Website Link; ComponentLink1URL: https://www.we-online.com/redexpert/article/744066681?ad; ComponentLink2Description: Datasheet Link; ComponentLink2URL: https://www.we-online.com/redexpert/spec/744066681?ad; Mount: Surface Mount; Operating Temperature Max: 125°C; Operating Temperature Min: -40°C; Packaging: Tape and Reel; Length: 10mm; Width: 10mm; Height: 3.8mm; DC Resistance: 1750mOhm; Inductance: 680uH; Rated Current: 0.46A
footprint WE-TPC_1038
simulation model 1038_744066681_680u
pins: 1, 2

## 744071022
designator L?, comment 2.2uH, 5.4A  (value not drawn)
WE-TPC SMT Tiny Power Inductor, size 8043, 2.2uH, 5.4A, 10mOhm; Manufacturer Part Number: 744071022; Manufacturer: Wurth Elektronik; Case/Size Code: 8043; Saturation Current: 6.3A; Self Resonant Frequency: 62MHz; Category: Power Inductors; Match Code: WE-TPC; ComponentLink1Description: Website Link; ComponentLink1URL: https://www.we-online.com/redexpert/article/744071022?ad; ComponentLink2Description: Datasheet Link; ComponentLink2URL: https://www.we-online.com/redexpert/spec/744071022?ad; Mount: Surface Mount; Operating Temperature Max: 125°C; Operating Temperature Min: -40°C; Packaging: Tape and Reel; Length: 8mm; Width: 8mm; Height: 4.3mm; DC Resistance: 10mOhm; Inductance: 2.2uH; Rated Current: 5.4A
footprint WE-TPC_8043
simulation model 8043_744071022_2.2u
pins: 1, 2

## 744071039
designator L?, comment 3.9uH, 4.9A  (value not drawn)
WE-TPC SMT Tiny Power Inductor, size 8043, 3.9uH, 4.9A, 13mOhm; Manufacturer Part Number: 744071039; Manufacturer: Wurth Elektronik; Case/Size Code: 8043; Saturation Current: 4.5A; Self Resonant Frequency: 40MHz; Category: Power Inductors; Match Code: WE-TPC; ComponentLink1Description: Website Link; ComponentLink1URL: https://www.we-online.com/redexpert/article/744071039?ad; ComponentLink2Description: Datasheet Link; ComponentLink2URL: https://www.we-online.com/redexpert/spec/744071039?ad; Mount: Surface Mount; Operating Temperature Max: 125°C; Operating Temperature Min: -40°C; Packaging: Tape and Reel; Length: 8mm; Width: 8mm; Height: 4.3mm; DC Resistance: 13mOhm; Inductance: 3.9uH; Rated Current: 4.9A
footprint WE-TPC_8043
simulation model 8043_744071039_3.9u
pins: 1, 2

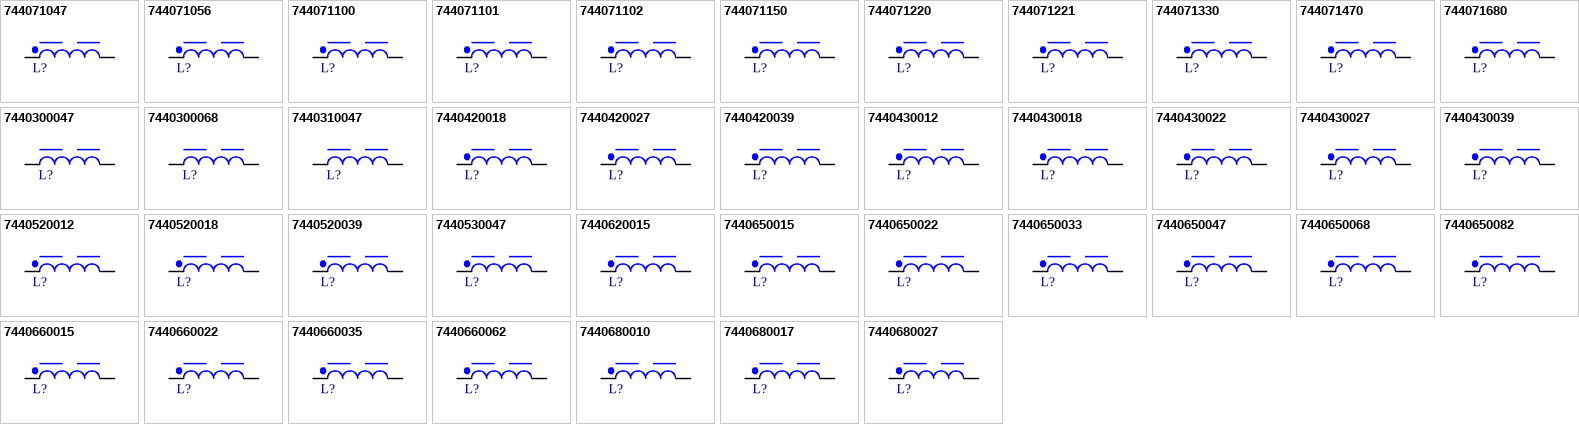
[diagram p4: symbols 744071047 to 7440680027]

## 744071047
designator L?, comment 4.7uH, 4.8A  (value not drawn)
WE-TPC SMT Tiny Power Inductor, size 8043, 4.7uH, 4.8A, 17mOhm; Manufacturer Part Number: 744071047; Manufacturer: Wurth Elektronik; Case/Size Code: 8043; Saturation Current: 4.3A; Self Resonant Frequency: 35MHz; Category: Power Inductors; Match Code: WE-TPC; ComponentLink1Description: Website Link; ComponentLink1URL: https://www.we-online.com/redexpert/article/744071047?ad; ComponentLink2Description: Datasheet Link; ComponentLink2URL: https://www.we-online.com/redexpert/spec/744071047?ad; Mount: Surface Mount; Operating Temperature Max: 125°C; Operating Temperature Min: -40°C; Packaging: Tape and Reel; Length: 8mm; Width: 8mm; Height: 4.3mm; DC Resistance: 17mOhm; Inductance: 4.7uH; Rated Current: 4.8A
footprint WE-TPC_8043
simulation model 8043_744071047_4.7u
pins: 1, 2

## 744071056
designator L?, comment 5.6uH, 4A  (value not drawn)
WE-TPC SMT Tiny Power Inductor, size 8043, 5.6uH, 4A, 20mOhm; Manufacturer Part Number: 744071056; Manufacturer: Wurth Elektronik; Case/Size Code: 8043; Self Resonant Frequency: 31MHz; Category: Power Inductors; Match Code: WE-TPC; ComponentLink1Description: Website Link; ComponentLink1URL: https://www.we-online.com/redexpert/article/744071056?ad; ComponentLink2Description: Datasheet Link; ComponentLink2URL: https://www.we-online.com/redexpert/spec/744071056?ad; Mount: Surface Mount; Operating Temperature Max: 125°C; Operating Temperature Min: -40°C; Packaging: Tape and Reel; Length: 8mm; Width: 8mm; Height: 4.3mm; DC Resistance: 20mOhm; Inductance: 5.6uH; Rated Current: 4A; Saturation Current: 4A
footprint WE-TPC_8043
simulation model 8043_744071056_5.6u
pins: 1, 2

## 744071100
designator L?, comment 10uH, 3.4A  (value not drawn)
WE-TPC SMT Tiny Power Inductor, size 8043, 10uH, 3.4A, 28mOhm; Manufacturer Part Number: 744071100; Manufacturer: Wurth Elektronik; Case/Size Code: 8043; Saturation Current: 2.8A; Self Resonant Frequency: 24MHz; Category: Power Inductors; Match Code: WE-TPC; ComponentLink1Description: Website Link; ComponentLink1URL: https://www.we-online.com/redexpert/article/744071100?ad; ComponentLink2Description: Datasheet Link; ComponentLink2URL: https://www.we-online.com/redexpert/spec/744071100?ad; Mount: Surface Mount; Operating Temperature Max: 125°C; Operating Temperature Min: -40°C; Packaging: Tape and Reel; Length: 8mm; Width: 8mm; Height: 4.3mm; DC Resistance: 28mOhm; Inductance: 10uH; Rated Current: 3.4A
footprint WE-TPC_8043
simulation model 8043_744071100_10u
pins: 1, 2

## 744071101
designator L?, comment 100uH, 1A  (value not drawn)
WE-TPC SMT Tiny Power Inductor, size 8043, 100uH, 1A, 270mOhm; Manufacturer Part Number: 744071101; Manufacturer: Wurth Elektronik; Case/Size Code: 8043; Saturation Current: 0.9A; Self Resonant Frequency: 6MHz; Category: Power Inductors; Match Code: WE-TPC; ComponentLink1Description: Website Link; ComponentLink1URL: https://www.we-online.com/redexpert/article/744071101?ad; ComponentLink2Description: Datasheet Link; ComponentLink2URL: https://www.we-online.com/redexpert/spec/744071101?ad; Mount: Surface Mount; Operating Temperature Max: 125°C; Operating Temperature Min: -40°C; Packaging: Tape and Reel; Length: 8mm; Width: 8mm; Height: 4.3mm; DC Resistance: 270mOhm; Inductance: 100uH; Rated Current: 1A
footprint WE-TPC_8043
simulation model 8043_744071101_100u
pins: 1, 2

## 744071102
designator L?, comment 1000uH, 0.23A  (value not drawn)
WE-TPC SMT Tiny Power Inductor, size 8043, 1000uH, 0.23A, 2985mOhm; Manufacturer Part Number: 744071102; Manufacturer: Wurth Elektronik; Case/Size Code: 8043; Saturation Current: 0.34A; Self Resonant Frequency: 2.2MHz; Category: Power Inductors; Match Code: WE-TPC; ComponentLink1Description: Website Link; ComponentLink1URL: https://www.we-online.com/redexpert/article/744071102?ad; ComponentLink2Description: Datasheet Link; ComponentLink2URL: https://www.we-online.com/redexpert/spec/744071102?ad; Mount: Surface Mount; Operating Temperature Max: 125°C; Operating Temperature Min: -40°C; Packaging: Tape and Reel; Length: 8mm; Width: 8mm; Height: 4.3mm; DC Resistance: 2985mOhm; Inductance: 1000uH; Rated Current: 0.23A
footprint WE-TPC_8043
simulation model 8043_744071102_1m
pins: 1, 2

## 744071150
designator L?, comment 15uH, 2.8A  (value not drawn)
WE-TPC SMT Tiny Power Inductor, size 8043, 15uH, 2.8A, 46mOhm; Manufacturer Part Number: 744071150; Manufacturer: Wurth Elektronik; Case/Size Code: 8043; Saturation Current: 2.3A; Self Resonant Frequency: 20MHz; Category: Power Inductors; Match Code: WE-TPC; ComponentLink1Description: Website Link; ComponentLink1URL: https://www.we-online.com/redexpert/article/744071150?ad; ComponentLink2Description: Datasheet Link; ComponentLink2URL: https://www.we-online.com/redexpert/spec/744071150?ad; Mount: Surface Mount; Operating Temperature Max: 125°C; Operating Temperature Min: -40°C; Packaging: Tape and Reel; Length: 8mm; Width: 8mm; Height: 4.3mm; DC Resistance: 46mOhm; Inductance: 15uH; Rated Current: 2.8A
footprint WE-TPC_8043
simulation model 8043_744071150_15u
pins: 1, 2

## 744071220
designator L?, comment 22uH, 2.3A  (value not drawn)
WE-TPC SMT Tiny Power Inductor, size 8043, 22uH, 2.3A, 65mOhm; Manufacturer Part Number: 744071220; Manufacturer: Wurth Elektronik; Case/Size Code: 8043; Saturation Current: 1.9A; Self Resonant Frequency: 16MHz; Category: Power Inductors; Match Code: WE-TPC; ComponentLink1Description: Website Link; ComponentLink1URL: https://www.we-online.com/redexpert/article/744071220?ad; ComponentLink2Description: Datasheet Link; ComponentLink2URL: https://www.we-online.com/redexpert/spec/744071220?ad; Mount: Surface Mount; Operating Temperature Max: 125°C; Operating Temperature Min: -40°C; Packaging: Tape and Reel; Length: 8mm; Width: 8mm; Height: 4.3mm; DC Resistance: 65mOhm; Inductance: 22uH; Rated Current: 2.3A
footprint WE-TPC_8043
simulation model 8043_744071220_22u
pins: 1, 2

## 744071221
designator L?, comment 220uH, 0.72A  (value not drawn)
WE-TPC SMT Tiny Power Inductor, size 8043, 220uH, 0.72A, 510mOhm; Manufacturer Part Number: 744071221; Manufacturer: Wurth Elektronik; Case/Size Code: 8043; Saturation Current: 0.6A; Self Resonant Frequency: 5MHz; Category: Power Inductors; Match Code: WE-TPC; ComponentLink1Description: Website Link; ComponentLink1URL: https://www.we-online.com/redexpert/article/744071221?ad; ComponentLink2Description: Datasheet Link; ComponentLink2URL: https://www.we-online.com/redexpert/spec/744071221?ad; Mount: Surface Mount; Operating Temperature Max: 125°C; Operating Temperature Min: -40°C; Packaging: Tape and Reel; Length: 8mm; Width: 8mm; Height: 4.3mm; DC Resistance: 510mOhm; Inductance: 220uH; Rated Current: 0.72A
footprint WE-TPC_8043
simulation model 8043_744071221_220u
pins: 1, 2

## 744071330
designator L?, comment 33uH, 1.9A  (value not drawn)
WE-TPC SMT Tiny Power Inductor, size 8043, 33uH, 1.9A, 95mOhm; Manufacturer Part Number: 744071330; Manufacturer: Wurth Elektronik; Case/Size Code: 8043; Saturation Current: 1.5A; Self Resonant Frequency: 12MHz; Category: Power Inductors; Match Code: WE-TPC; ComponentLink1Description: Website Link; ComponentLink1URL: https://www.we-online.com/redexpert/article/744071330?ad; ComponentLink2Description: Datasheet Link; ComponentLink2URL: https://www.we-online.com/redexpert/spec/744071330?ad; Mount: Surface Mount; Operating Temperature Max: 125°C; Operating Temperature Min: -40°C; Packaging: Tape and Reel; Length: 8mm; Width: 8mm; Height: 4.3mm; DC Resistance: 95mOhm; Inductance: 33uH; Rated Current: 1.9A
footprint WE-TPC_8043
simulation model 8043_744071330_33u
pins: 1, 2

## 744071470
designator L?, comment 47uH, 1.6A  (value not drawn)
WE-TPC SMT Tiny Power Inductor, size 8043, 47uH, 1.6A, 120mOhm; Manufacturer Part Number: 744071470; Manufacturer: Wurth Elektronik; Case/Size Code: 8043; Saturation Current: 1.3A; Self Resonant Frequency: 10MHz; Category: Power Inductors; Match Code: WE-TPC; ComponentLink1Description: Website Link; ComponentLink1URL: https://www.we-online.com/redexpert/article/744071470?ad; ComponentLink2Description: Datasheet Link; ComponentLink2URL: https://www.we-online.com/redexpert/spec/744071470?ad; Mount: Surface Mount; Operating Temperature Max: 125°C; Operating Temperature Min: -40°C; Packaging: Tape and Reel; Length: 8mm; Width: 8mm; Height: 4.3mm; DC Resistance: 120mOhm; Inductance: 47uH; Rated Current: 1.6A
footprint WE-TPC_8043
simulation model 8043_744071470_47u
pins: 1, 2

## 744071680
designator L?, comment 68uH, 1.3A  (value not drawn)
WE-TPC SMT Tiny Power Inductor, size 8043, 68uH, 1.3A, 185mOhm; Manufacturer Part Number: 744071680; Manufacturer: Wurth Elektronik; Case/Size Code: 8043; Saturation Current: 1.1A; Self Resonant Frequency: 8MHz; Category: Power Inductors; Match Code: WE-TPC; ComponentLink1Description: Website Link; ComponentLink1URL: https://www.we-online.com/redexpert/article/744071680?ad; ComponentLink2Description: Datasheet Link; ComponentLink2URL: https://www.we-online.com/redexpert/spec/744071680?ad; Mount: Surface Mount; Operating Temperature Max: 125°C; Operating Temperature Min: -40°C; Packaging: Tape and Reel; Length: 8mm; Width: 8mm; Height: 4.3mm; DC Resistance: 185mOhm; Inductance: 68uH; Rated Current: 1.3A
footprint WE-TPC_8043
simulation model 8043_744071680_68u
pins: 1, 2

## 7440300047
designator L?, comment 0.47uH, 1.45A  (value not drawn)
WE-TPC SMT Tiny Power Inductor, size 3510, 0.47uH, 1.45A, 48mOhm; Manufacturer Part Number: 7440300047; Manufacturer: Wurth Elektronik; Case/Size Code: 3510; Saturation Current: 1.8A; Self Resonant Frequency: 270MHz; Category: Power Inductors; Match Code: WE-TPC; ComponentLink1Description: Website Link; ComponentLink1URL: https://www.we-online.com/redexpert/article/7440300047?ad; ComponentLink2Description: Datasheet Link; ComponentLink2URL: https://www.we-online.com/redexpert/spec/7440300047?ad; Mount: Surface Mount; Operating Temperature Max: 125°C; Operating Temperature Min: -40°C; Packaging: Tape and Reel; Length: 3.3mm; Width: 3.5mm; Height: 0.95mm; DC Resistance: 48mOhm; Inductance: 0.47uH; Rated Current: 1.45A
footprint WE-TPC_3510
simulation model 3510_7440300047_0.47u
pins: 1, 2

## 7440300068
designator L?, comment 0.68uH, 1.3A  (value not drawn)
WE-TPC SMT Tiny Power Inductor, size 3510, 0.68uH, 1.3A, 60mOhm; Manufacturer Part Number: 7440300068; Manufacturer: Wurth Elektronik; Case/Size Code: 3510; Saturation Current: 1.5A; Self Resonant Frequency: 230MHz; Category: Power Inductors; Match Code: WE-TPC; ComponentLink1Description: Website Link; ComponentLink1URL: https://www.we-online.com/redexpert/article/7440300068?ad; ComponentLink2Description: Datasheet Link; ComponentLink2URL: https://www.we-online.com/redexpert/spec/7440300068?ad; Mount: Surface Mount; Operating Temperature Max: 125°C; Operating Temperature Min: -40°C; Packaging: Tape and Reel; Length: 3.3mm; Width: 3.5mm; Height: 0.95mm; DC Resistance: 60mOhm; Inductance: 0.68uH; Rated Current: 1.3A
footprint WE-TPC_3510
simulation model 3510_7440300068_0.68u
pins: 1, 2

## 7440310047
designator L?, comment 0.47uH, 3A  (value not drawn)
WE-TPC SMT Tiny Power Inductor, size 3816, 0.47uH, 3A, 16mOhm; Manufacturer Part Number: 7440310047; Manufacturer: Wurth Elektronik; Case/Size Code: 3816; Saturation Current: 2A; Self Resonant Frequency: 208MHz; Category: Power Inductors; Match Code: WE-TPC; ComponentLink1Description: Website Link; ComponentLink1URL: https://www.we-online.com/redexpert/article/7440310047?ad; ComponentLink2Description: Datasheet Link; ComponentLink2URL: https://www.we-online.com/redexpert/spec/7440310047?ad; Mount: Surface Mount; Operating Temperature Max: 125°C; Operating Temperature Min: -40°C; Packaging: Tape and Reel; Length: 3.8mm; Width: 3.8mm; Height: 1.65mm; DC Resistance: 16mOhm; Inductance: 0.47uH; Rated Current: 3A
footprint WE-TPC_3816
simulation model 3816_7440310047_0.47u
pins: 1, 2